# Altium footprint library EISI.PcbLib: 695 footprints (part 16 of 44)
Each footprint in its own frame and in the unit in brackets; x right, y up, seen from the top. Pads: shape width x height; smd on the part's side, far side on the other; paste and mask are expansions set on the pad; w line width, h text height; cw(c..) or ccw(c..) is an arc to the next point about the centre after c.
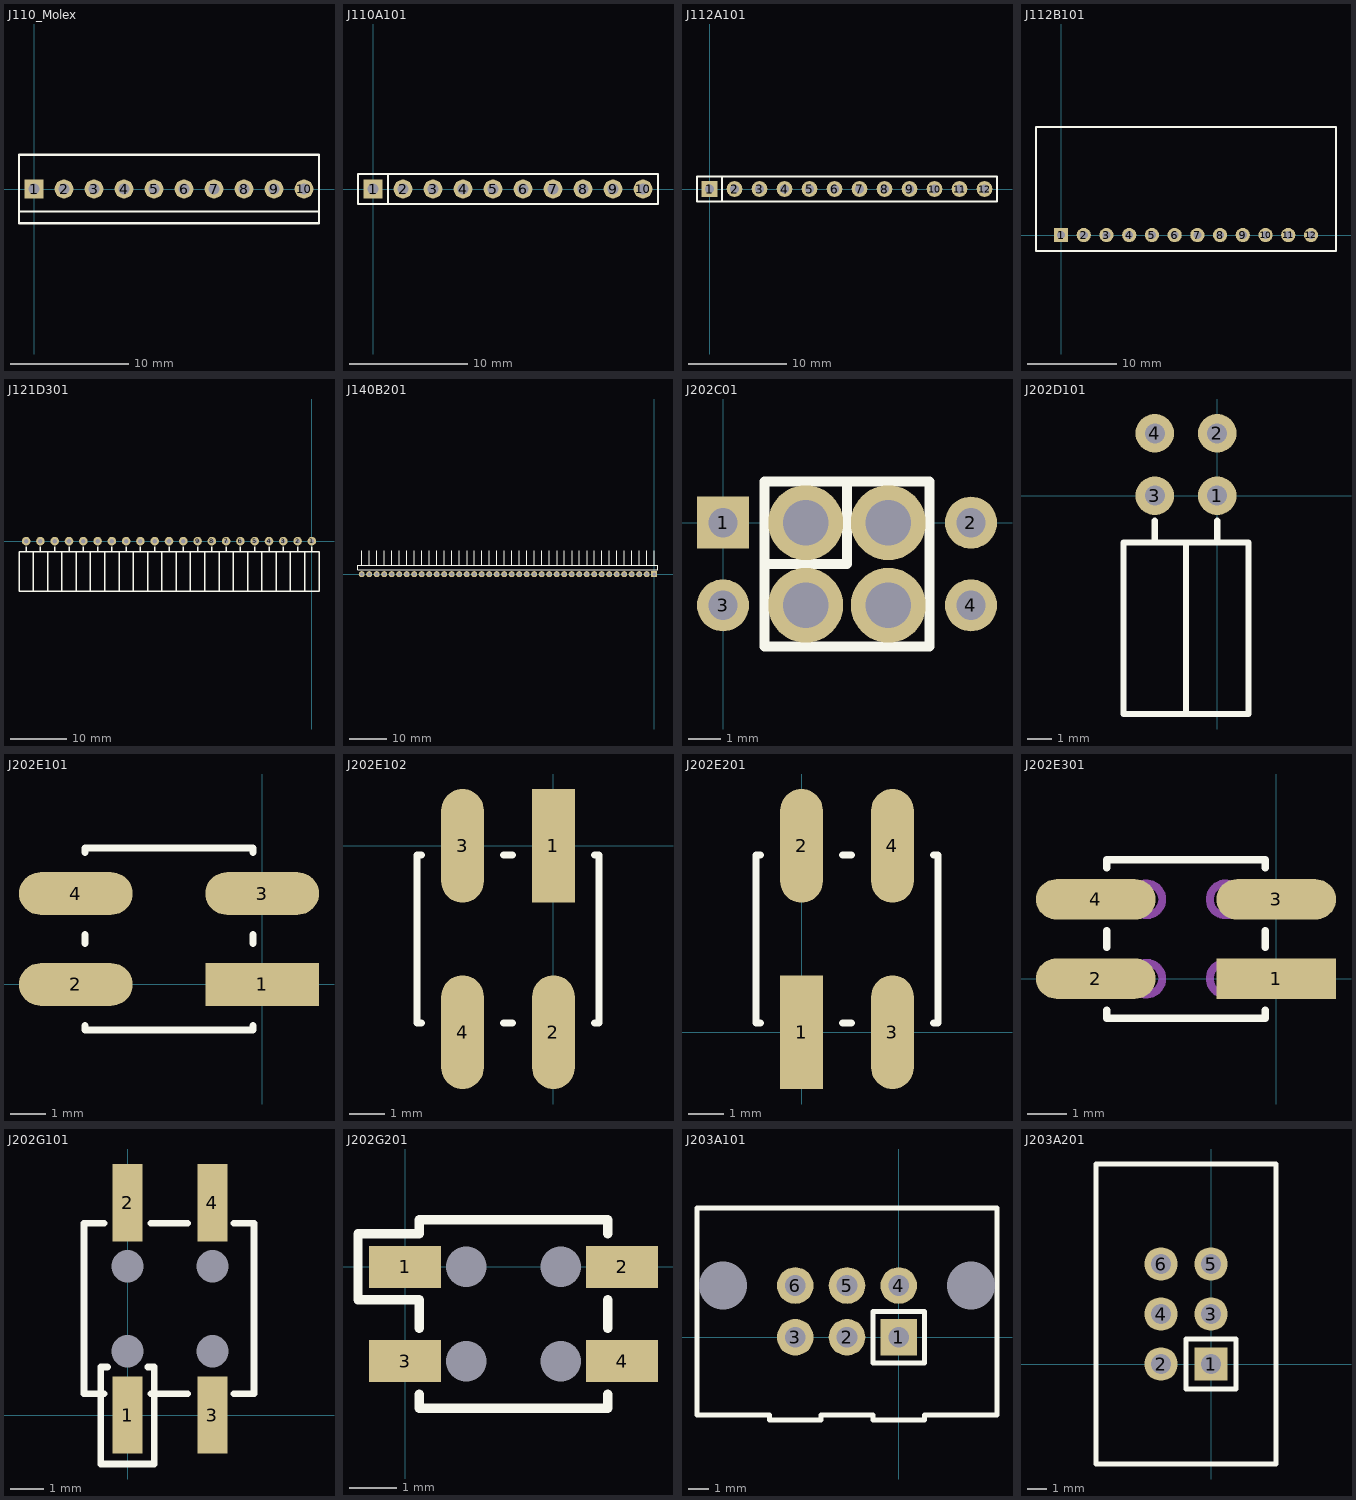
[diagram p15: the footprints below, top view; thin cyan lines are the x and y axes]

## J110_Molex [mm] "Connecteur Molex droit 10 pôles"
height 11.7
pads (10):
  rect 1.6x1.6 hole 0.9: 1(0,0)
  round 1.6 hole 0.9: 2(2.54,0) 3(5.08,0) 4(7.62,0) 5(10.16,0) 6(12.7,0) 7(15.24,0) 8(17.78,0) 9(20.32,0) 10(22.86,0)
TopOverlay:
  lines w0.2: -1.27,-1.9 24.13,-1.9 ; -1.27,-2.9 -1.27,0 -1.27,2.9 24.13,2.9 24.13,-2.9 -1.27,-2.9

## J110A101 [mm]
pads (10):
  rect 1.6x1.6 hole 0.9: 1(0,0)
  round 1.6 hole 0.9: 2(2.54,0) 3(5.08,0) 4(7.62,0) 5(10.16,0) 6(12.7,0) 7(15.24,0) 8(17.78,0) 9(20.32,0) 10(22.86,0)
TopOverlay:
  lines w0.2: 1.27,-1.27 1.27,1.27 ; -1.27,-1.27 24.13,-1.27 24.13,1.27 -1.27,1.27 -1.27,-1.27

## J112A101 [mm]
pads (12):
  rect 1.6x1.6 hole 0.9: 1(0,0)
  round 1.6 hole 0.9: 2(2.54,0) 3(5.08,0) 4(7.62,0) 5(10.16,0) 6(12.7,0) 7(15.24,0) 8(17.78,0) 9(20.32,0) 10(22.86,0) 11(25.4,0) 12(27.94,0)
TopOverlay:
  lines w0.2: 1.27,-1.27 1.27,1.27 ; -1.27,-1.27 29.21,-1.27 29.21,1.27 -1.27,1.27 -1.27,-1.27

## J112B101 [mm]
pads (12):
  rect 1.6x1.6 hole 0.9: 1(0,0)
  round 1.6 hole 0.9: 2(2.54,0) 3(5.08,0) 4(7.62,0) 5(10.16,0) 6(12.7,0) 7(15.24,0) 8(17.78,0) 9(20.32,0) 10(22.86,0) 11(25.4,0) 12(27.94,0)
TopOverlay:
  lines w0.2: -2.794,-1.778 30.734,-1.778 30.734,12.065 -2.794,12.065 -2.794,-1.778

## J121D301 [mil]
pads (21):
  round 60 hole 32: 1(0,0) 2(-100,0) 3(-200,0) 4(-300,0) 5(-400,0) 6(-500,0) 7(-600,0) 8(-700,0) 9(-800,0) 10(-900,0) 11(-1000,0) 12(-1100,0) 13(-1200,0) 14(-1300,0) 15(-1400,0) 16(-1500,0) 17(-1600,0) 18(-1700,0) 19(-1800,0) 20(-1900,0) 21(-2000,0)
TopOverlay:
  lines w10: -2000,-75 -2000,-40 ; -1950,-350 -1950,-75 ; -1900,-75 -1900,-40 ; -1850,-350 -1850,-75 ; -1800,-75 -1800,-40 ; -1700,-75 -1700,-40 ; -1650,-350 -1650,-75 ; -1600,-75 -1600,-40 ; -1550,-350 -1550,-75 ; -1500,-75 -1500,-40 ; -1400,-75 -1400,-40 ; -1350,-350 -1350,-75 ; -1300,-75 -1300,-40 ; -1250,-350 -1250,-75 ; -1200,-75 -1200,-40 ; -1100,-75 -1100,-40 ; -1050,-350 -1050,-75 ; -1000,-75 -1000,-40 ; -950,-350 -950,-75 ; -900,-75 -900,-40 ; -800,-75 -800,-40 ; -750,-350 -750,-75 ; -700,-75 -700,-40 ; -650,-350 -650,-75 ; -600,-75 -600,-40 ; -500,-75 -500,-40 ; -450,-350 -450,-75 ; -400,-75 -400,-40 ; -350,-350 -350,-75 ; -300,-75 -300,-40 ; -200,-75 -200,-40 ; -150,-350 -150,-75 ; -100,-75 -100,-40 ; -50,-350 -50,-75 ; 0,-75 0,-40 ; -1750,-350 -1450,-350 ; -1750,-350 -1750,-75 ; -1750,-350 -1750,-75 ; -1750,-350 -2050,-350 -2050,-75 -1750,-75 ; -1750,-75 -1450,-75 ; -1450,-350 -1450,-75 ; -1450,-350 -1150,-350 ; -1450,-350 -1450,-75 ; -1450,-75 -1150,-75 ; -1150,-350 -850,-350 ; -1150,-350 -1150,-75 ; -1150,-350 -1150,-75 ; -1150,-75 -850,-75 ; -850,-350 -850,-75 ; -850,-350 -550,-350 ; -850,-350 -850,-75 ; -850,-75 -550,-75 ; -550,-350 -250,-350 ; -550,-350 -550,-75 ; -550,-350 -550,-75 ; -550,-75 -250,-75 ; -250,-350 -250,-75 ; -250,-350 50,-350 50,-75 -250,-75 ; -250,-350 -250,-75

## J140B201 [mm]
pads (40):
  rect 1.6x1.6 hole 0.9: 1(0,0)
  round 1.6 hole 0.9: 2(-2,0) 3(-4,0) 4(-6,0) 5(-8,0) 6(-10,0) 7(-12,0) 8(-14,0) 9(-16,0) 10(-18,0) 11(-20,0) 12(-22,0) 13(-24,0) 14(-26,0) 15(-28,0) 16(-30,0) 17(-32,0) 18(-34,0) 19(-36,0) 20(-38,0) 21(-40,0) 22(-42,0) 23(-44,0) 24(-46,0) 25(-48,0) 26(-50,0) 27(-52,0) 28(-54,0) 29(-56,0) 30(-58,0) 31(-60,0) 32(-62,0) 33(-64,0) 34(-66,0) 35(-68,0) 36(-70,0) 37(-72,0) 38(-74,0) 39(-76,0) 40(-78,0)
TopOverlay:
  lines w0.254: -78,2.4 -78,6.223 ; -76,2.4 -76,6.223 ; -74,2.4 -74,6.223 ; -72,2.4 -72,6.223 ; -70,2.4 -70,6.223 ; -68,2.4 -68,6.223 ; -66,2.4 -66,6.223 ; -64,2.4 -64,6.223 ; -62,2.4 -62,6.223 ; -60,2.4 -60,6.223 ; -58,2.4 -58,6.223 ; -56,2.4 -56,6.223 ; -54,2.4 -54,6.223 ; -52,2.4 -52,6.223 ; -50,2.4 -50,6.223 ; -48,2.4 -48,6.223 ; -46,2.4 -46,6.223 ; -44,2.4 -44,6.223 ; -42,2.4 -42,6.223 ; -40,2.4 -40,6.223 ; -38,2.4 -38,6.223 ; -36,2.4 -36,6.223 ; -34,2.4 -34,6.223 ; -32,2.4 -32,6.223 ; -30,2.4 -30,6.223 ; -28,2.4 -28,6.223 ; -26,2.4 -26,6.223 ; -24,2.4 -24,6.223 ; -22,2.4 -22,6.223 ; -20,2.4 -20,6.223 ; -18,2.4 -18,6.223 ; -16,2.4 -16,6.223 ; -14,2.4 -14,6.223 ; -12,2.4 -12,6.223 ; -10,2.4 -10,6.223 ; -8,2.4 -8,6.223 ; -6,2.4 -6,6.223 ; -4,2.4 -4,6.223 ; -2,2.413 -2,6.223 ; 0,2.413 0,6.223 ; -78.994,1.116 -78.994,2.413 1.016,2.413 1.016,1.116 -78.994,1.116

## J202C01 [mm]
pads (8):
  rect 1.6x1.6 hole 0.9: 1(0,0)
  round 1.6 hole 0.9: 2(7.62,0) 3(0,-2.54) 4(7.62,-2.54)
  round 2.3 hole 1.4: ""(2.54,-2.54) ""(2.54,0) ""(5.08,-2.54) ""(5.08,0)
TopOverlay:
  lines w0.305: 1.27,-1.27 3.81,-1.27 3.81,1.27 ; 1.27,-3.81 1.27,1.27 6.35,1.27 6.35,-3.81 1.27,-3.81

## J202D101 [mil]
pads (4):
  round 62 hole 32: 1(0,0) 2(0,100) 3(-100,0) 4(-100,100)
TopOverlay:
  lines w10: -100,-75 -100,-40 ; -50,-350 -50,-75 ; 0,-75 0,-40 ; -150,-350 -150,-75 50,-75 50,-350 -150,-350

## J202E101 [mil]
pads (4):
  rect 125x47 smd: 1(0,0)
  oval 125x47 smd: 2(-205,0) 3(0,100) 4(-205,100)
TopOverlay:
  lines w7.87: -195,-45 -195,-50 -10,-50 -10,-45 ; -195,45 -195,55 ; -195,145 -195,150 -10,150 -10,145 ; -10,45 -10,55

## J202E102 [mil]
pads (4):
  rect 47x125 smd: 1(0,0)
  oval 47x125 smd: 2(0,-205) 3(-100,0) 4(-100,-205)
TopOverlay:
  lines w7.87: -145,-195 -150,-195 -150,-10 -145,-10 ; -55,-195 -45,-195 ; -55,-10 -45,-10 ; 45,-195 50,-195 50,-10 45,-10

## J202E201 [mil]
pads (4):
  rect 47x125 smd: 1(0,0)
  oval 47x125 smd: 2(0,205) 3(100,0) 4(100,205)
TopOverlay:
  lines w7.87: -45,10 -50,10 -50,195 -45,195 ; 45,10 55,10 ; 45,195 55,195 ; 145,10 150,10 150,195 145,195

## J202E301 [mm]
pads (4):
  rect 3.02x1.02 smd: 1(0,0)
  oval 3.02x1.02 smd: 2(-4.55,0) 3(0,2) 4(-4.55,2)
TopOverlay:
  lines w0.2: -4.275,-0.8 -4.275,-1 -0.275,-1 -0.275,-0.8 ; -4.275,0.8 -4.275,1.2 ; -4.275,2.8 -4.275,3 -0.275,3 -0.275,2.8 ; -0.275,0.8 -0.275,1.2
Mechanical4:
  circle w0.2: c-3.275,2 r0.4
  circle w0.2: c-1.275,2 r0.4
  circle w0.2: c-1.275,0 r0.4
  circle w0.2: c-3.275,0 r0.4

## J202G101 [mil]
pads (8):
  rect 35x91 smd: 1(0,0) 2(0,250) 3(100,0) 4(100,250)
  round 12 hole 38: ""(0,75) ""(0,175) ""(100,75) ""(100,175)
TopOverlay:
  lines w7.87: -27.56,25 -51.18,25 -51.18,225.79 -27.56,225.79 ; -23.62,56.5 -31.5,56.5 -31.5,25 -31.5,-57.68 27.56,-57.68 31.5,-57.68 31.5,52.56 31.5,56.5 23.62,56.5 ; 27.56,25 70.87,25 ; 27.56,225.79 70.87,225.79 ; 125.2,25 148.82,25 148.82,225.79 125.2,225.79

## J202G201 [mil]
pads (8):
  rect 60x35 smd: 1(0,0) 2(181.1,0) 3(0,-78.74) 4(181.1,-78.74)
  round 12 hole 33.86: ""(51.18,0) ""(51.18,-78.74) ""(129.92,-78.74) ""(129.92,0)
TopOverlay:
  lines w7.87: 11.81,-106.3 11.81,-118.11 169.29,-118.11 169.29,-106.3 ; 11.81,-51.18 11.81,-27.56 -15.75,-27.56 -39.37,-27.56 -39.37,27.56 11.81,27.56 11.81,39.37 169.29,39.37 169.29,27.56 ; 169.29,-51.18 169.29,-27.56

## J203A101 [mm]
pads (8):
  rect 1.8x1.8 hole 1.016 unplated: 1(0,0)
  round 1.8 hole 1.016 unplated: 2(-2.54,0) 3(-5.08,0) 4(0,2.54) 5(-2.54,2.54) 6(-5.08,2.54)
  round 0.3 hole 2.36: ""(-8.636,2.54) ""(3.556,2.54)
TopOverlay:
  lines w0.254: -9.906,-3.81 -9.906,6.35 4.826,6.35 4.826,-3.81 1.27,-3.81 1.27,-4.064 -1.27,-4.064 -1.27,-3.81 -3.81,-3.81 -3.81,-4.064 -6.35,-4.064 -6.35,-3.81 -9.906,-3.81 ; -1.27,-1.27 -1.27,1.27 1.27,1.27 1.27,-1.27 -1.27,-1.27

## J203A201 [mm]
pads (6):
  rect 1.7x1.7 hole 1: 1(0,0)
  round 1.7 hole 1: 2(-2.54,0) 3(0,2.54) 4(-2.54,2.54) 5(0,5.08) 6(-2.54,5.08)
TopOverlay:
  lines w0.254: -5.842,-5.08 -5.842,10.16 3.302,10.16 3.302,-5.08 -5.842,-5.08 ; -1.27,-1.27 -1.27,1.27 1.27,1.27 1.27,-1.27 -1.27,-1.27